# Altium schematic symbol library 05E_Convertor.SchLib: 4 symbols
Pins are listed as number, name and electrical type; pins without a type are passive.

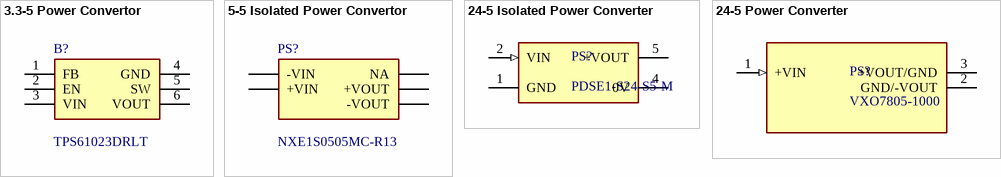
[diagram p0: symbols 3.3-5 Power Convertor to 24-5 Power Converter]

## 3.3-5 Power Convertor
designator B?, comment TPS61023DRLT
Switching Voltage Regulators 3-A boost converter with 0.5-V ultra-low input voltage 6-SOT-5X3 -40 to 125; Manufacturer_Name: Texas Instruments; Geometry.Height: 0.6mm; Mouser Part Number: 595-TPS61023DRLT; Mouser Price/Stock: https://www.mouser.co.uk/ProductDetail/Texas-Instruments/TPS61023DRLT?qs=BJlw7L4Cy78Zr3IJIU3gNw%3D%3D; Manufacturer_Part_Number: TPS61023DRLT; Datasheet Link: http://www.ti.com/general/docs/suppproductinfo.tsp?distId=10&gotoUrl=http%3A%2F%2Fwww.ti.com%2Flit%2Fgpn%2Ftps61023
footprint TPS61023DRLT-SOT-6N
pins: 1 FB, 2 EN, 3 VIN, 4 GND, 5 SW, 6 VOUT

## 5-5 Isolated Power Convertor
designator PS?, comment NXE1S0505MC-R13
Module DC-DC Single-OUT 5V 0.2A 1W 5-Pin SMD T/R - Tape and Reel; Manufacturer_Name: Murata Electronics; Geometry.Height: 4.71mm; Mouser Part Number: 580-NXE1S0505MC-R13; Mouser Price/Stock: https://www.mouser.co.uk/ProductDetail/Murata-Power-Solutions/NXE1S0505MC-R13?qs=NM0%252BZNIUYlo96h3roUleQA%3D%3D; Manufacturer_Part_Number: NXE1S0505MC-R13; Datasheet Link: https://componentsearchengine.com/Datasheets/1/NXE1S0505MC-R13.pdf
footprint NXE1Sxxxx
pins: 1 -VIN, 3 +VIN, 7 -VOUT, 8 +VOUT, 14 NA

## 24-5 Isolated Power Converter
designator PS?, comment PDSE1-S24-S5-M
CUI Inc., DC-DC ISOLATED, 5VDC input, 1 W, 4.5-5.5 VDC; MF: {'manufacturer': u'CUI'}; Availability: Unavailable; Package: None; MP: PDSE1-S24-S5-M; Value: *; Price: None; Supplier 1: Mouser; Supplier 2: Digi-Key; Supplier Part Number 1: 490-PDSE1-S24-S5-M; Supplier Part Number 2: 102-PDSE1-S24-S5-M-ND
footprint PDSE1-Sxx-Sx-M
pins: 1 GND (power), 2 VIN (in), 4 0V (power), 5 +VOUT (power)

## 24-5 Power Converter
designator PS?, comment VXO7805-1000
CUI Inc.,1 A Output Current, 6~36 Vdc Input, 3 Pin SIP, Non-Isolated, Dc-Dc Converter; MF: CUI Inc.; Package: SIP-3; Value: *; Price: None; MP: VXO7805-1000; SnapEDA_Link: https://www.snapeda.com/parts/VXO7805-1000/CUI/view-part/2679745/?ref=snap; Availability: Unavailable; Supplier 1: Mouser; Supplier 2: Digi-Key; Supplier Part Number 2: 102-4258-ND; Supplier Part Number 1: 490-VXO7805-1000
footprint VXO78xx-1000
pins: 1 +VIN (in), 2 GND/-VOUT (power), 3 +VOUT/GND (power)